# Altium footprint library SOT95P280X100-5N ltc1799.PcbLib: 1 footprints
Each footprint in its own frame and in the unit in brackets; x right, y up, seen from the top. Pads: shape width x height; smd on the part's side, far side on the other; paste and mask are expansions set on the pad; w line width, h text height; cw(c..) or ccw(c..) is an arc to the next point about the centre after c.
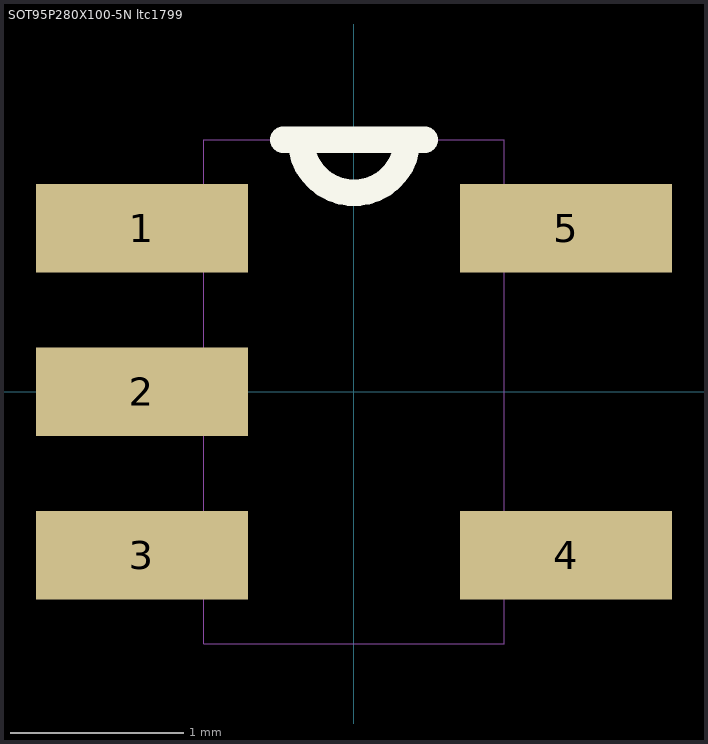
[diagram p0: the footprint, top view; thin cyan lines are the x and y axes]

## SOT95P280X100-5N ltc1799 [mil]
pads (5):
  rect 48x20 smd: 1(-48,37) 2(-48,0) 3(-48,-37) 4(48,-37) 5(48,37)
Top Overlay:
  lines w6: -16,57 -12,57 ; 16,57 12,57 ; -12,57 ccw(c0,57) 12,57 ; -12,57 12,57
Assembly Top:
  lines w0: -34,-46 -55,-46 -55,-29 -34,-29 ; -34,-46 -34,-29 ; -34,-46 -34,-57 34,-57 34,-46 ; -34,-29 -34,-9 ; -34,-9 -55,-9 -55,9 -34,9 ; -34,-9 -34,9 ; -34,9 -34,29 ; -34,29 -55,29 -55,46 -34,46 ; -34,29 -34,46 ; -34,46 -34,57 -12,57 ; -12,57 ccw(c0,57) 12,57 ; -12,57 12,57 ; 12,57 34,57 34,46 ; 34,-46 55,-46 55,-29 34,-29 ; 34,-46 34,-29 ; 34,-29 34,29 ; 34,29 55,29 55,46 34,46 ; 34,29 34,46
3D body "step_temp.STEP": height 39.37, standoff 0, extent -55.12,-57.09 55.12,57.09